# Altium integrated library ON Semi General Purpose Transistors.IntLib: 1679 symbols (part 27 of 36)
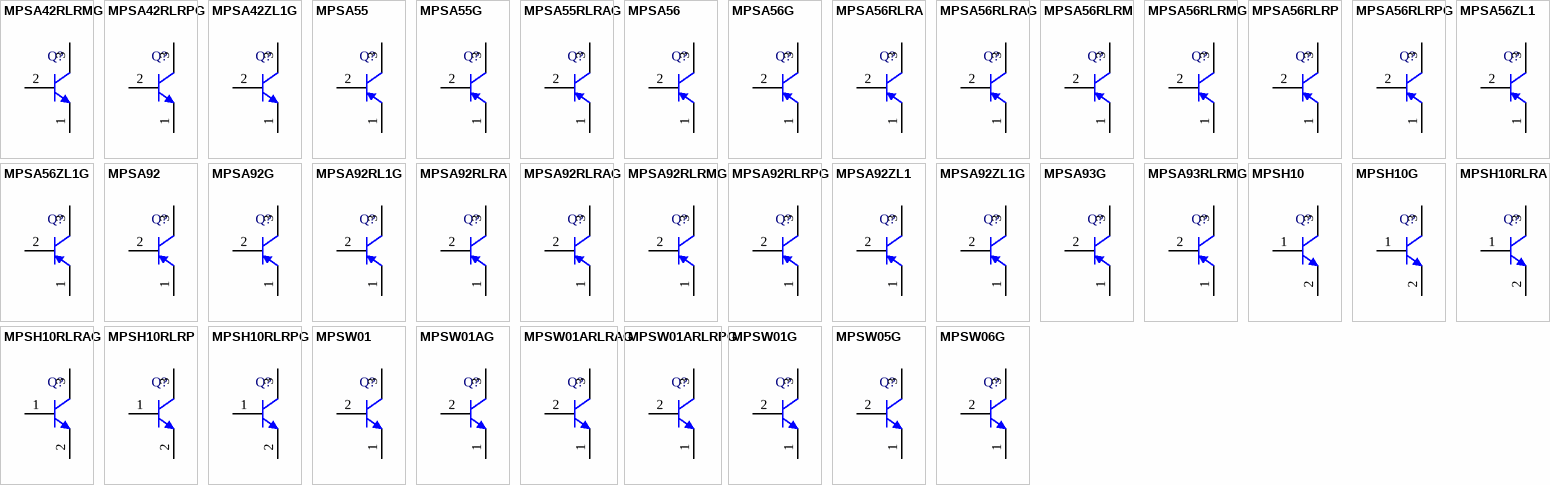
[diagram p71: symbols MPSA42RLRMG to MPSW06G]

## MPSW01
designator Q?
One Watt High Current Transistor, NPN Silicon, 3-Pin TO-92, Bulk Box; Manufacturer: On Semiconductor; PartNumber: MPSW01; Note: 0; fT Min (MHz): 50; IC Continuous (A): 1; DatasheetVersion: Rev. 6; PackageVersion: Rev. A, 05/2012; PackageReference: TO-92-3-29-10_SL; PackageDescription: 3-Pin Transistor Outline, Body 4.825 x 3.685 mm, Pitch 1.27 mm; Packing: Bulk Box; Polarity: NPN; RoHS: FALSE; Mounting Technology: Through Hole; ComponentLink1Description: Manufacturer URL; ComponentLink1URL: http://www.onsemi.com/; ComponentLink2Description: Datasheet; ComponentLink2URL: http://www.onsemi.com/pub_link/Collateral/MPSW01-D.PDF; ComponentLink3Description: Package Specification; ComponentLink3URL: http://www.onsemi.cn/pub_link/Collateral/29-10.PDF
footprint ONSC-TO-92-3-29-10_SL (TO, 3-Leads, Body Dia 4.7 mm, Pitch 1.27mm)
pins: 1 E, 2 B, 3 C

## MPSW01AG
designator Q?
One Watt High Current Transistor, NPN Silicon, 3-Pin TO-92, Pb-Free, Bulk Box; Manufacturer: On Semiconductor; PartNumber: MPSW01AG; fT Min (MHz): 50; IC Continuous (A): 1; DatasheetVersion: Rev. 6; PackageVersion: Rev. A, 05/2012; PackageReference: TO-92-3-29-10_SL; PackageDescription: 3-Pin Transistor Outline, Body 4.825 x 3.685 mm, Pitch 1.27 mm; Supplier 1: Digi-Key; Supplier Part Number 1: MPSW01AGOS-ND; Supplier 2: Farnell; Supplier Part Number 2: 1147713; Supplier 3: Newark; Supplier Part Number 3: 42K1471; Supplier 4: Mouser; Supplier Part Number 4: 863-MPSW01AG; Packing: Bulk Box; Polarity: NPN; RoHS: TRUE; Mounting Technology: Through Hole; ComponentLink1Description: Manufacturer URL; ComponentLink1URL: http://www.onsemi.com/; ComponentLink2Description: Datasheet; ComponentLink2URL: http://www.onsemi.com/pub_link/Collateral/MPSW01-D.PDF; ComponentLink3Description: Package Specification; ComponentLink3URL: http://www.onsemi.cn/pub_link/Collateral/29-10.PDF
footprint ONSC-TO-92-3-29-10_SL (TO, 3-Leads, Body Dia 4.7 mm, Pitch 1.27mm)
pins: 1 E, 2 B, 3 C

## MPSW01ARLRAG
designator Q?
One Watt High Current Transistor, NPN Silicon, 3-Pin TO-92, Pb-Free, Tape and Reel; Manufacturer: On Semiconductor; PartNumber: MPSW01ARLRAG; fT Min (MHz): 50; IC Continuous (A): 1; DatasheetVersion: Rev. 6; PackageVersion: Rev. A, 05/2012; PackageReference: TO-92-3-29-10_BL; PackageDescription: 3-Pin Transistor Outline, Body 4.825 x 3.685 mm, Pitch 1.27 mm; Supplier 1: Digi-Key; Supplier Part Number 1: MPSW01ARLRAG-ND; Supplier 2: Mouser; Supplier Part Number 2: 863-MPSW01ARLRAG; Packing: Tape and Reel; Polarity: NPN; RoHS: TRUE; Mounting Technology: Through Hole; ComponentLink1Description: Manufacturer URL; ComponentLink1URL: http://www.onsemi.com/; ComponentLink2Description: Datasheet; ComponentLink2URL: http://www.onsemi.com/pub_link/Collateral/MPSW01-D.PDF; ComponentLink3Description: Package Specification; ComponentLink3URL: http://www.onsemi.cn/pub_link/Collateral/29-10.PDF
footprint ONSC-TO-92-3-29-10_BL (TO, 3-Leads, Body Dia 4.7 mm, Pitch 2.6 mm)
pins: 1 E, 2 B, 3 C

## MPSW01ARLRPG
designator Q?
One Watt High Current Transistor, NPN Silicon, 3-Pin TO-92, Pb-Free, Ammo Box; Manufacturer: On Semiconductor; PartNumber: MPSW01ARLRPG; fT Min (MHz): 50; IC Continuous (A): 1; DatasheetVersion: Rev. 6; PackageVersion: Rev. A, 05/2012; PackageReference: TO-92-3-29-10_BL; PackageDescription: 3-Pin Transistor Outline, Body 4.825 x 3.685 mm, Pitch 1.27 mm; Supplier 1: Digi-Key; Supplier Part Number 1: MPSW01ARLRPGOSTB-ND; Supplier 2: Digi-Key; Supplier Part Number 2: MPSW01ARLRPGOSCT-ND; Supplier 3: Newark; Supplier Part Number 3: 26K4636; Supplier 4: Mouser; Supplier Part Number 4: 863-MPSW01ARLRPG; Packing: Ammo Box; Polarity: NPN; RoHS: TRUE; Mounting Technology: Through Hole; ComponentLink1Description: Manufacturer URL; ComponentLink1URL: http://www.onsemi.com/; ComponentLink2Description: Datasheet; ComponentLink2URL: http://www.onsemi.com/pub_link/Collateral/MPSW01-D.PDF; ComponentLink3Description: Package Specification; ComponentLink3URL: http://www.onsemi.cn/pub_link/Collateral/29-10.PDF
footprint ONSC-TO-92-3-29-10_BL (TO, 3-Leads, Body Dia 4.7 mm, Pitch 2.6 mm)
pins: 1 E, 2 B, 3 C

## MPSW01G
designator Q?
One Watt High Current Transistor, NPN Silicon, 3-Pin TO-92, Pb-Free, Bulk Box; Manufacturer: On Semiconductor; PartNumber: MPSW01G; fT Min (MHz): 50; IC Continuous (A): 1; DatasheetVersion: Rev. 6; PackageVersion: Rev. A, 05/2012; PackageReference: TO-92-3-29-10_SL; PackageDescription: 3-Pin Transistor Outline, Body 4.825 x 3.685 mm, Pitch 1.27 mm; Supplier 1: Digi-Key; Supplier Part Number 1: MPSW01GOS-ND; Supplier 2: Farnell; Supplier Part Number 2: 1364564; Supplier 3: Newark; Supplier Part Number 3: 42K1472; Supplier 4: Mouser; Supplier Part Number 4: 863-MPSW01G; Packing: Bulk Box; Polarity: NPN; RoHS: TRUE; Mounting Technology: Through Hole; ComponentLink1Description: Manufacturer URL; ComponentLink1URL: http://www.onsemi.com/; ComponentLink2Description: Datasheet; ComponentLink2URL: http://www.onsemi.com/pub_link/Collateral/MPSW01-D.PDF; ComponentLink3Description: Package Specification; ComponentLink3URL: http://www.onsemi.cn/pub_link/Collateral/29-10.PDF
footprint ONSC-TO-92-3-29-10_SL (TO, 3-Leads, Body Dia 4.7 mm, Pitch 1.27mm)
pins: 1 E, 2 B, 3 C

## MPSW05G
designator Q?
One Watt Amplifier Transistor, NPN Silicon, 3-Pin TO-92, Pb-Free, Bulk Box; Manufacturer: On Semiconductor; PartNumber: MPSW05G; fT Min (MHz): 50; IC Continuous (A): 0.5; DatasheetVersion: Rev. 4; PackageVersion: Rev. A, 05/2012; PackageReference: TO-92-3-29-10_SL; PackageDescription: 3-Pin Transistor Outline, Body 4.825 x 3.685 mm, Pitch 1.27 mm; Supplier 1: Digi-Key; Supplier Part Number 1: MPSW05GOS-ND; Supplier 2: Mouser; Supplier Part Number 2: 863-MPSW05G; Packing: Bulk Box; Polarity: NPN; RoHS: TRUE; Mounting Technology: Through Hole; ComponentLink1Description: Manufacturer URL; ComponentLink1URL: http://www.onsemi.com/; ComponentLink2Description: Datasheet; ComponentLink2URL: http://www.onsemi.com/pub_link/Collateral/MPSW05-D.PDF; ComponentLink3Description: Package Specification; ComponentLink3URL: http://www.onsemi.cn/pub_link/Collateral/29-10.PDF
footprint ONSC-TO-92-3-29-10_SL (TO, 3-Leads, Body Dia 4.7 mm, Pitch 1.27mm)
pins: 1 E, 2 B, 3 C

## MPSW06G
designator Q?
One Watt Amplifier Transistor, NPN Silicon, 3-Pin TO-92, Pb-Free, Bulk Box; Manufacturer: On Semiconductor; PartNumber: MPSW06G; fT Min (MHz): 50; IC Continuous (A): 0.5; DatasheetVersion: Rev. 4; PackageVersion: Rev. A, 05/2012; PackageReference: TO-92-3-29-10_SL; PackageDescription: 3-Pin Transistor Outline, Body 4.825 x 3.685 mm, Pitch 1.27 mm; Supplier 1: Digi-Key; Supplier Part Number 1: MPSW06GOS-ND; Supplier 2: Farnell; Supplier Part Number 2: 1149637; Supplier 3: Newark; Supplier Part Number 3: 26K4637; Supplier 4: Mouser; Supplier Part Number 4: 863-MPSW06G; Packing: Bulk Box; Polarity: NPN; RoHS: TRUE; Mounting Technology: Through Hole; ComponentLink1Description: Manufacturer URL; ComponentLink1URL: http://www.onsemi.com/; ComponentLink2Description: Datasheet; ComponentLink2URL: http://www.onsemi.com/pub_link/Collateral/MPSW05-D.PDF; ComponentLink3Description: Package Specification; ComponentLink3URL: http://www.onsemi.cn/pub_link/Collateral/29-10.PDF
footprint ONSC-TO-92-3-29-10_SL (TO, 3-Leads, Body Dia 4.7 mm, Pitch 1.27mm)
pins: 1 E, 2 B, 3 C

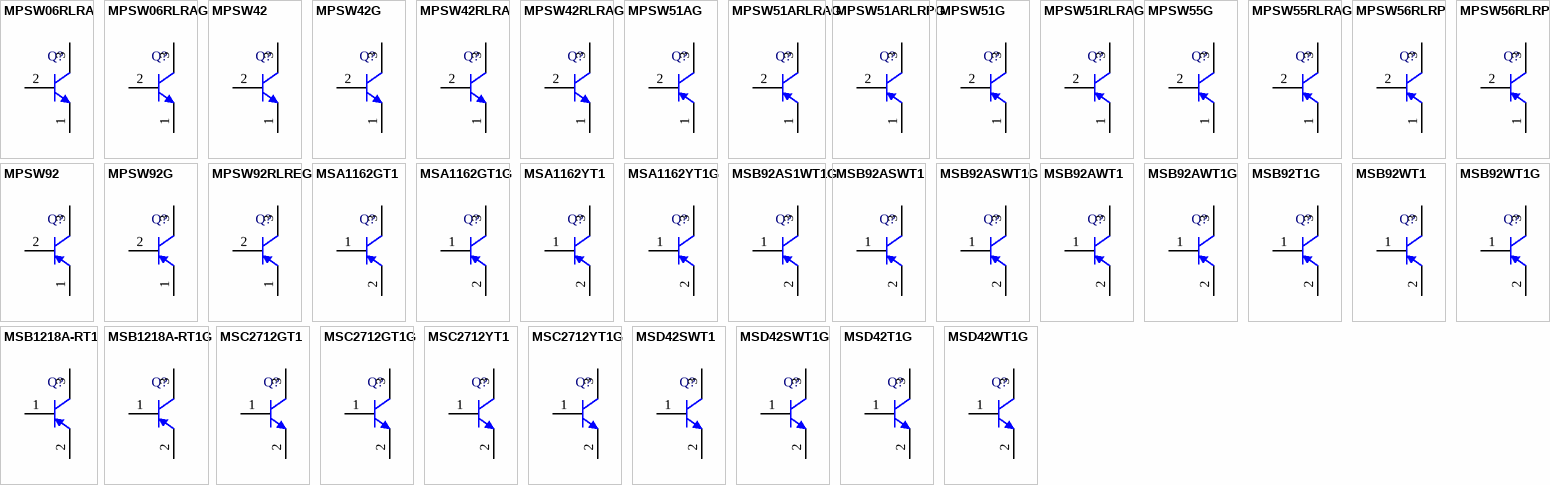
[diagram p33: symbols MPSW06RLRA to MSD42WT1G]

## MPSW06RLRA
designator Q?
One Watt Amplifier Transistor, NPN Silicon, 3-Pin TO-92, Tape and Reel; Manufacturer: On Semiconductor; PartNumber: MPSW06RLRA; fT Min (MHz): 50; IC Continuous (A): 0.5; DatasheetVersion: Rev. 4; PackageVersion: Rev. A, 05/2012; PackageReference: TO-92-3-29-10_BL; PackageDescription: 3-Pin Transistor Outline, Body 4.825 x 3.685 mm, Pitch 1.27 mm; Supplier 1: Digi-Key; Supplier Part Number 1: MPSW06RLRAOSCT-ND; Packing: Tape and Reel; Polarity: NPN; RoHS: FALSE; Mounting Technology: Through Hole; ComponentLink1Description: Manufacturer URL; ComponentLink1URL: http://www.onsemi.com/; ComponentLink2Description: Datasheet; ComponentLink2URL: http://www.onsemi.com/pub_link/Collateral/MPSW05-D.PDF; ComponentLink3Description: Package Specification; ComponentLink3URL: http://www.onsemi.cn/pub_link/Collateral/29-10.PDF
footprint ONSC-TO-92-3-29-10_BL (TO, 3-Leads, Body Dia 4.7 mm, Pitch 2.6 mm)
pins: 1 E, 2 B, 3 C

## MPSW06RLRAG
designator Q?
One Watt Amplifier Transistor, NPN Silicon, 3-Pin TO-92, Pb-Free, Tape and Reel; Manufacturer: On Semiconductor; PartNumber: MPSW06RLRAG; fT Min (MHz): 50; IC Continuous (A): 0.5; DatasheetVersion: Rev. 4; PackageVersion: Rev. A, 05/2012; PackageReference: TO-92-3-29-10_BL; PackageDescription: 3-Pin Transistor Outline, Body 4.825 x 3.685 mm, Pitch 1.27 mm; Supplier 1: Digi-Key; Supplier Part Number 1: MPSW06RLRAGOSTR-ND; Supplier 2: Digi-Key; Supplier Part Number 2: MPSW06RLRAGOSCT-ND; Supplier 3: Farnell; Supplier Part Number 3: 1861272; Supplier 4: Newark; Supplier Part Number 4: 77M8940; Supplier 5: Newark; Supplier Part Number 5: 71J6105; Supplier 6: Mouser; Supplier Part Number 6: 863-MPSW06RLRAG; Packing: Tape and Reel; Polarity: NPN; RoHS: TRUE; Mounting Technology: Through Hole; ComponentLink1Description: Manufacturer URL; ComponentLink1URL: http://www.onsemi.com/; ComponentLink2Description: Datasheet; ComponentLink2URL: http://www.onsemi.com/pub_link/Collateral/MPSW05-D.PDF; ComponentLink3Description: Package Specification; ComponentLink3URL: http://www.onsemi.cn/pub_link/Collateral/29-10.PDF
footprint ONSC-TO-92-3-29-10_BL (TO, 3-Leads, Body Dia 4.7 mm, Pitch 2.6 mm)
pins: 1 E, 2 B, 3 C

## MPSW42
designator Q?
One Watt High Voltage Transistor, NPN Silicon, 3-Pin TO-92, Bulk Box; Manufacturer: On Semiconductor; PartNumber: MPSW42; fT Min (MHz): 50; IC Continuous (A): 0.5; DatasheetVersion: Rev. 7; PackageVersion: Rev. A, 05/2012; PackageReference: TO-92-3-29-10_SL; PackageDescription: 3-Pin Transistor Outline, Body 4.825 x 3.685 mm, Pitch 1.27 mm; Supplier 1: Digi-Key; Supplier Part Number 1: MPSW42-ND; Packing: Bulk Box; Polarity: NPN; RoHS: FALSE; Mounting Technology: Through Hole; ComponentLink1Description: Manufacturer URL; ComponentLink1URL: http://www.onsemi.com/; ComponentLink2Description: Datasheet; ComponentLink2URL: http://www.onsemi.com/pub_link/Collateral/MPSW42-D.PDF; ComponentLink3Description: Package Specification; ComponentLink3URL: http://www.onsemi.cn/pub_link/Collateral/29-10.PDF
footprint ONSC-TO-92-3-29-10_SL (TO, 3-Leads, Body Dia 4.7 mm, Pitch 1.27mm)
pins: 1 E, 2 B, 3 C

## MPSW42G
designator Q?
One Watt High Voltage Transistor, NPN Silicon, 3-Pin TO-92, Pb-Free, Bulk Box; Manufacturer: On Semiconductor; PartNumber: MPSW42G; fT Min (MHz): 50; IC Continuous (A): 0.5; DatasheetVersion: Rev. 7; PackageVersion: Rev. A, 05/2012; PackageReference: TO-92-3-29-10_SL; PackageDescription: 3-Pin Transistor Outline, Body 4.825 x 3.685 mm, Pitch 1.27 mm; Supplier 1: Digi-Key; Supplier Part Number 1: MPSW42GOS-ND; Supplier 2: Farnell; Supplier Part Number 2: 1147714; Supplier 3: Newark; Supplier Part Number 3: 42K1475; Supplier 4: Mouser; Supplier Part Number 4: 863-MPSW42G; Packing: Bulk Box; Polarity: NPN; RoHS: TRUE; Mounting Technology: Through Hole; ComponentLink1Description: Manufacturer URL; ComponentLink1URL: http://www.onsemi.com/; ComponentLink2Description: Datasheet; ComponentLink2URL: http://www.onsemi.com/pub_link/Collateral/MPSW42-D.PDF; ComponentLink3Description: Package Specification; ComponentLink3URL: http://www.onsemi.cn/pub_link/Collateral/29-10.PDF
footprint ONSC-TO-92-3-29-10_SL (TO, 3-Leads, Body Dia 4.7 mm, Pitch 1.27mm)
pins: 1 E, 2 B, 3 C

## MPSW42RLRA
designator Q?
One Watt High Voltage Transistor, NPN Silicon, 3-Pin TO-92, Tape and Reel; Manufacturer: On Semiconductor; PartNumber: MPSW42RLRA; fT Min (MHz): 50; IC Continuous (A): 0.5; DatasheetVersion: Rev. 7; PackageVersion: Rev. A, 05/2012; PackageReference: TO-92-3-29-10_BL; PackageDescription: 3-Pin Transistor Outline, Body 4.825 x 3.685 mm, Pitch 1.27 mm; Supplier 1: Digi-Key; Supplier Part Number 1: MPSW42RLRAOSCT-ND; Packing: Tape and Reel; Polarity: NPN; RoHS: FALSE; Mounting Technology: Through Hole; ComponentLink1Description: Manufacturer URL; ComponentLink1URL: http://www.onsemi.com/; ComponentLink2Description: Datasheet; ComponentLink2URL: http://www.onsemi.com/pub_link/Collateral/MPSW42-D.PDF; ComponentLink3Description: Package Specification; ComponentLink3URL: http://www.onsemi.cn/pub_link/Collateral/29-10.PDF
footprint ONSC-TO-92-3-29-10_BL (TO, 3-Leads, Body Dia 4.7 mm, Pitch 2.6 mm)
pins: 1 E, 2 B, 3 C

## MPSW42RLRAG
designator Q?
One Watt High Voltage Transistor, NPN Silicon, 3-Pin TO-92, Pb-Free, Tape and Reel; Manufacturer: On Semiconductor; PartNumber: MPSW42RLRAG; fT Min (MHz): 50; IC Continuous (A): 0.5; DatasheetVersion: Rev. 7; PackageVersion: Rev. A, 05/2012; PackageReference: TO-92-3-29-10_BL; PackageDescription: 3-Pin Transistor Outline, Body 4.825 x 3.685 mm, Pitch 1.27 mm; Supplier 1: Digi-Key; Supplier Part Number 1: MPSW42RLRAGOSTR-ND; Supplier 2: Digi-Key; Supplier Part Number 2: MPSW42RLRAGOSCT-ND; Supplier 3: Farnell; Supplier Part Number 3: 2369437; Supplier 4: Farnell; Supplier Part Number 4: 1273214; Supplier 5: Newark; Supplier Part Number 5: 45J1662; Supplier 6: Newark; Supplier Part Number 6: 84K8811; Supplier 7: Mouser; Supplier Part Number 7: 863-MPSW42RLRAG; Packing: Tape and Reel; Polarity: NPN; RoHS: TRUE; Mounting Technology: Through Hole; ComponentLink1Description: Manufacturer URL; ComponentLink1URL: http://www.onsemi.com/; ComponentLink2Description: Datasheet; ComponentLink2URL: http://www.onsemi.com/pub_link/Collateral/MPSW42-D.PDF; ComponentLink3Description: Package Specification; ComponentLink3URL: http://www.onsemi.cn/pub_link/Collateral/29-10.PDF
footprint ONSC-TO-92-3-29-10_BL (TO, 3-Leads, Body Dia 4.7 mm, Pitch 2.6 mm)
pins: 1 E, 2 B, 3 C

## MPSW51AG
designator Q?
One Watt High Current Transistor, PNP Silicon, 3-Pin TO-92, Pb-Free, Bulk Box; Manufacturer: On Semiconductor; PartNumber: MPSW51AG; fT Min (MHz): 50; IC Continuous (A): -1; DatasheetVersion: Rev. 5; PackageVersion: Rev. A, 05/2012; PackageReference: TO-92-3-29-10_SL; PackageDescription: 3-Pin Transistor Outline, Body 4.825 x 3.685 mm, Pitch 1.27 mm; Supplier 1: Digi-Key; Supplier Part Number 1: MPSW51AGOS-ND; Supplier 2: Farnell; Supplier Part Number 2: 1126002; Supplier 3: Newark; Supplier Part Number 3: 26K4640; Supplier 4: Mouser; Supplier Part Number 4: 863-MPSW51AG; Packing: Bulk Box; Polarity: PNP; RoHS: TRUE; Mounting Technology: Through Hole; ComponentLink1Description: Manufacturer URL; ComponentLink1URL: http://www.onsemi.com/; ComponentLink2Description: Datasheet; ComponentLink2URL: http://www.onsemi.com/pub_link/Collateral/MPSW51-D.PDF; ComponentLink3Description: Package Specification; ComponentLink3URL: http://www.onsemi.cn/pub_link/Collateral/29-10.PDF
footprint ONSC-TO-92-3-29-10_SL (TO, 3-Leads, Body Dia 4.7 mm, Pitch 1.27mm)
pins: 1 E, 2 B, 3 C

## MPSW51ARLRAG
designator Q?
One Watt High Current Transistor, PNP Silicon, 3-Pin TO-92, Pb-Free, Tape and Reel; Manufacturer: On Semiconductor; PartNumber: MPSW51ARLRAG; fT Min (MHz): 50; IC Continuous (A): -1; DatasheetVersion: Rev. 5; PackageVersion: Rev. A, 05/2012; PackageReference: TO-92-3-29-10_BL; PackageDescription: 3-Pin Transistor Outline, Body 4.825 x 3.685 mm, Pitch 1.27 mm; Supplier 1: Digi-Key; Supplier Part Number 1: MPSW51ARLRAG-ND; Supplier 2: Newark; Supplier Part Number 2: 42K1479; Supplier 3: Mouser; Supplier Part Number 3: 863-MPSW51ARLRAG; Packing: Tape and Reel; Polarity: PNP; RoHS: TRUE; Mounting Technology: Through Hole; ComponentLink1Description: Manufacturer URL; ComponentLink1URL: http://www.onsemi.com/; ComponentLink2Description: Datasheet; ComponentLink2URL: http://www.onsemi.com/pub_link/Collateral/MPSW51-D.PDF; ComponentLink3Description: Package Specification; ComponentLink3URL: http://www.onsemi.cn/pub_link/Collateral/29-10.PDF
footprint ONSC-TO-92-3-29-10_BL (TO, 3-Leads, Body Dia 4.7 mm, Pitch 2.6 mm)
pins: 1 E, 2 B, 3 C

## MPSW51ARLRPG
designator Q?
One Watt High Current Transistor, PNP Silicon, 3-Pin TO-92, Pb-Free, Ammo Box; Manufacturer: On Semiconductor; PartNumber: MPSW51ARLRPG; fT Min (MHz): 50; IC Continuous (A): -1; DatasheetVersion: Rev. 5; PackageVersion: Rev. A, 05/2012; PackageReference: TO-92-3-29-10_BL; PackageDescription: 3-Pin Transistor Outline, Body 4.825 x 3.685 mm, Pitch 1.27 mm; Supplier 1: Digi-Key; Supplier Part Number 1: MPSW51ARLRPG-ND; Supplier 2: Newark; Supplier Part Number 2: 26K4641; Supplier 3: Mouser; Supplier Part Number 3: 863-MPSW51ARLRPG; Packing: Ammo Box; Polarity: PNP; RoHS: TRUE; Mounting Technology: Through Hole; ComponentLink1Description: Manufacturer URL; ComponentLink1URL: http://www.onsemi.com/; ComponentLink2Description: Datasheet; ComponentLink2URL: http://www.onsemi.com/pub_link/Collateral/MPSW51-D.PDF; ComponentLink3Description: Package Specification; ComponentLink3URL: http://www.onsemi.cn/pub_link/Collateral/29-10.PDF
footprint ONSC-TO-92-3-29-10_BL (TO, 3-Leads, Body Dia 4.7 mm, Pitch 2.6 mm)
pins: 1 E, 2 B, 3 C

## MPSW51G
designator Q?
One Watt High Current Transistor, PNP Silicon, 3-Pin TO-92, Pb-Free, Bulk Box; Manufacturer: On Semiconductor; PartNumber: MPSW51G; fT Min (MHz): 50; IC Continuous (A): -1; DatasheetVersion: Rev. 5; PackageVersion: Rev. A, 05/2012; PackageReference: TO-92-3-29-10_SL; PackageDescription: 3-Pin Transistor Outline, Body 4.825 x 3.685 mm, Pitch 1.27 mm; Supplier 1: Digi-Key; Supplier Part Number 1: MPSW51G-ND; Supplier 2: Newark; Supplier Part Number 2: 42K1480; Supplier 3: Mouser; Supplier Part Number 3: 863-MPSW51G; Packing: Bulk Box; Polarity: PNP; RoHS: TRUE; Mounting Technology: Through Hole; ComponentLink1Description: Manufacturer URL; ComponentLink1URL: http://www.onsemi.com/; ComponentLink2Description: Datasheet; ComponentLink2URL: http://www.onsemi.com/pub_link/Collateral/MPSW51-D.PDF; ComponentLink3Description: Package Specification; ComponentLink3URL: http://www.onsemi.cn/pub_link/Collateral/29-10.PDF
footprint ONSC-TO-92-3-29-10_SL (TO, 3-Leads, Body Dia 4.7 mm, Pitch 1.27mm)
pins: 1 E, 2 B, 3 C

## MPSW51RLRAG
designator Q?
One Watt High Current Transistor, PNP Silicon, 3-Pin TO-92, Pb-Free, Tape and Reel; Manufacturer: On Semiconductor; PartNumber: MPSW51RLRAG; Note: 0; fT Min (MHz): 50; IC Continuous (A): -1; DatasheetVersion: Rev. 5; PackageVersion: Rev. A, 05/2012; PackageReference: TO-92-3-29-10_BL; PackageDescription: 3-Pin Transistor Outline, Body 4.825 x 3.685 mm, Pitch 1.27 mm; Packing: Tape and Reel; Polarity: PNP; RoHS: TRUE; Mounting Technology: Through Hole; ComponentLink1Description: Manufacturer URL; ComponentLink1URL: http://www.onsemi.com/; ComponentLink2Description: Datasheet; ComponentLink2URL: http://www.onsemi.com/pub_link/Collateral/MPSW51-D.PDF; ComponentLink3Description: Package Specification; ComponentLink3URL: http://www.onsemi.cn/pub_link/Collateral/29-10.PDF
footprint ONSC-TO-92-3-29-10_BL (TO, 3-Leads, Body Dia 4.7 mm, Pitch 2.6 mm)
pins: 1 E, 2 B, 3 C

## MPSW55G
designator Q?
One Watt Amplifier Transistor, PNP Silicon, 3-Pin TO-92, Pb-Free, Bulk Box; Manufacturer: On Semiconductor; PartNumber: MPSW55G; fT Min (MHz): 50; IC Continuous (A): -0.5; DatasheetVersion: Rev. 4; PackageVersion: Rev. A, 05/2012; PackageReference: TO-92-3-29-10_SL; PackageDescription: 3-Pin Transistor Outline, Body 4.825 x 3.685 mm, Pitch 1.27 mm; Supplier 1: Digi-Key; Supplier Part Number 1: MPSW55G-ND; Supplier 2: Newark; Supplier Part Number 2: 42K1481; Supplier 3: Mouser; Supplier Part Number 3: 863-MPSW55G; Packing: Bulk Box; Polarity: PNP; RoHS: TRUE; Mounting Technology: Through Hole; ComponentLink1Description: Manufacturer URL; ComponentLink1URL: http://www.onsemi.com/; ComponentLink2Description: Datasheet; ComponentLink2URL: http://www.onsemi.com/pub_link/Collateral/MPSW55-D.PDF; ComponentLink3Description: Package Specification; ComponentLink3URL: http://www.onsemi.cn/pub_link/Collateral/29-10.PDF
footprint ONSC-TO-92-3-29-10_SL (TO, 3-Leads, Body Dia 4.7 mm, Pitch 1.27mm)
pins: 1 E, 2 B, 3 C

## MPSW55RLRAG
designator Q?
One Watt Amplifier Transistor, PNP Silicon, 3-Pin TO-92, Pb-Free, Tape and Reel; Manufacturer: On Semiconductor; PartNumber: MPSW55RLRAG; fT Min (MHz): 50; IC Continuous (A): -0.5; DatasheetVersion: Rev. 4; PackageVersion: Rev. A, 05/2012; PackageReference: TO-92-3-29-10_BL; PackageDescription: 3-Pin Transistor Outline, Body 4.825 x 3.685 mm, Pitch 1.27 mm; Supplier 1: Digi-Key; Supplier Part Number 1: MPSW55RLRAG-ND; Supplier 2: Mouser; Supplier Part Number 2: 863-MPSW55RLRAG; Packing: Tape and Reel; Polarity: PNP; RoHS: TRUE; Mounting Technology: Through Hole; ComponentLink1Description: Manufacturer URL; ComponentLink1URL: http://www.onsemi.com/; ComponentLink2Description: Datasheet; ComponentLink2URL: http://www.onsemi.com/pub_link/Collateral/MPSW55-D.PDF; ComponentLink3Description: Package Specification; ComponentLink3URL: http://www.onsemi.cn/pub_link/Collateral/29-10.PDF
footprint ONSC-TO-92-3-29-10_BL (TO, 3-Leads, Body Dia 4.7 mm, Pitch 2.6 mm)
pins: 1 E, 2 B, 3 C

## MPSW56RLRP
designator Q?
One Watt Amplifier Transistor, PNP Silicon, 3-Pin TO-92, Ammo Box; Manufacturer: On Semiconductor; PartNumber: MPSW56RLRP; fT Min (MHz): 50; IC Continuous (A): -0.5; DatasheetVersion: Rev. 4; PackageVersion: Rev. A, 05/2012; PackageReference: TO-92-3-29-10_BL; PackageDescription: 3-Pin Transistor Outline, Body 4.825 x 3.685 mm, Pitch 1.27 mm; Supplier 1: Mouser; Supplier Part Number 1: 863-MPSW56RLRP; Packing: Ammo Box; Polarity: PNP; RoHS: FALSE; Mounting Technology: Through Hole; ComponentLink1Description: Manufacturer URL; ComponentLink1URL: http://www.onsemi.com/; ComponentLink2Description: Datasheet; ComponentLink2URL: http://www.onsemi.com/pub_link/Collateral/MPSW55-D.PDF; ComponentLink3Description: Package Specification; ComponentLink3URL: http://www.onsemi.cn/pub_link/Collateral/29-10.PDF
footprint ONSC-TO-92-3-29-10_BL (TO, 3-Leads, Body Dia 4.7 mm, Pitch 2.6 mm)
pins: 1 E, 2 B, 3 C

## MPSW56RLRPG
designator Q?
One Watt Amplifier Transistor, PNP Silicon, 3-Pin TO-92, Pb-Free, Ammo Box; Manufacturer: On Semiconductor; PartNumber: MPSW56RLRPG; fT Min (MHz): 50; IC Continuous (A): -0.5; DatasheetVersion: Rev. 4; PackageVersion: Rev. A, 05/2012; PackageReference: TO-92-3-29-10_BL; PackageDescription: 3-Pin Transistor Outline, Body 4.825 x 3.685 mm, Pitch 1.27 mm; Supplier 1: Digi-Key; Supplier Part Number 1: MPSW56RLRPGOSTB-ND; Supplier 2: Digi-Key; Supplier Part Number 2: MPSW56RLRPGOSCT-ND; Supplier 3: Newark; Supplier Part Number 3: 26K4642; Supplier 4: Mouser; Supplier Part Number 4: 863-MPSW56RLRPG; Packing: Ammo Box; Polarity: PNP; RoHS: TRUE; Mounting Technology: Through Hole; ComponentLink1Description: Manufacturer URL; ComponentLink1URL: http://www.onsemi.com/; ComponentLink2Description: Datasheet; ComponentLink2URL: http://www.onsemi.com/pub_link/Collateral/MPSW55-D.PDF; ComponentLink3Description: Package Specification; ComponentLink3URL: http://www.onsemi.cn/pub_link/Collateral/29-10.PDF
footprint ONSC-TO-92-3-29-10_BL (TO, 3-Leads, Body Dia 4.7 mm, Pitch 2.6 mm)
pins: 1 E, 2 B, 3 C

## MPSW92
designator Q?
One Watt High Voltage Transistor, PNP Silicon, 3-Pin TO-92, Bulk Box; Manufacturer: On Semiconductor; PartNumber: MPSW92; fT Min (MHz): 50; IC Continuous (A): -0.5; DatasheetVersion: Rev. 5; PackageVersion: Rev. A, 05/2012; PackageReference: TO-92-3-29-10_SL; PackageDescription: 3-Pin Transistor Outline, Body 4.825 x 3.685 mm, Pitch 1.27 mm; Supplier 1: Digi-Key; Supplier Part Number 1: MPSW92OS-ND; Supplier 2: Mouser; Supplier Part Number 2: 863-MPSW92; Packing: Bulk Box; Polarity: PNP; RoHS: FALSE; Mounting Technology: Through Hole; ComponentLink1Description: Manufacturer URL; ComponentLink1URL: http://www.onsemi.com/; ComponentLink2Description: Datasheet; ComponentLink2URL: http://www.onsemi.com/pub_link/Collateral/MPSW92-D.PDF; ComponentLink3Description: Package Specification; ComponentLink3URL: http://www.onsemi.cn/pub_link/Collateral/29-10.PDF
footprint ONSC-TO-92-3-29-10_SL (TO, 3-Leads, Body Dia 4.7 mm, Pitch 1.27mm)
pins: 1 E, 2 B, 3 C

## MPSW92G
designator Q?
One Watt High Voltage Transistor, PNP Silicon, 3-Pin TO-92, Pb-Free, Bulk Box; Manufacturer: On Semiconductor; PartNumber: MPSW92G; fT Min (MHz): 50; IC Continuous (A): -0.5; DatasheetVersion: Rev. 5; PackageVersion: Rev. A, 05/2012; PackageReference: TO-92-3-29-10_SL; PackageDescription: 3-Pin Transistor Outline, Body 4.825 x 3.685 mm, Pitch 1.27 mm; Supplier 1: Digi-Key; Supplier Part Number 1: MPSW92GOS-ND; Supplier 2: Mouser; Supplier Part Number 2: 863-MPSW92G; Packing: Bulk Box; Polarity: PNP; RoHS: TRUE; Mounting Technology: Through Hole; ComponentLink1Description: Manufacturer URL; ComponentLink1URL: http://www.onsemi.com/; ComponentLink2Description: Datasheet; ComponentLink2URL: http://www.onsemi.com/pub_link/Collateral/MPSW92-D.PDF; ComponentLink3Description: Package Specification; ComponentLink3URL: http://www.onsemi.cn/pub_link/Collateral/29-10.PDF
footprint ONSC-TO-92-3-29-10_SL (TO, 3-Leads, Body Dia 4.7 mm, Pitch 1.27mm)
pins: 1 E, 2 B, 3 C

## MPSW92RLREG
designator Q?
One Watt High Voltage Transistor, PNP Silicon, 3-Pin TO-92, Pb-Free, Tape and Reel; Manufacturer: On Semiconductor; PartNumber: MPSW92RLREG; Note: 0; fT Min (MHz): 50; IC Continuous (A): -0.5; DatasheetVersion: Rev. 5; PackageVersion: Rev. A, 05/2012; PackageReference: TO-92-3-29-10_BL; PackageDescription: 3-Pin Transistor Outline, Body 4.825 x 3.685 mm, Pitch 1.27 mm; Packing: Tape and Reel; Polarity: PNP; RoHS: TRUE; Mounting Technology: Through Hole; ComponentLink1Description: Manufacturer URL; ComponentLink1URL: http://www.onsemi.com/; ComponentLink2Description: Datasheet; ComponentLink2URL: http://www.onsemi.com/pub_link/Collateral/MPSW92-D.PDF; ComponentLink3Description: Package Specification; ComponentLink3URL: http://www.onsemi.cn/pub_link/Collateral/29-10.PDF
footprint ONSC-TO-92-3-29-10_BL (TO, 3-Leads, Body Dia 4.7 mm, Pitch 2.6 mm)
pins: 1 E, 2 B, 3 C

## MSA1162GT1
designator Q?
General Purpose Amplifier Transistor, PNP Surface Mount, 3-Pin SC-59, Tape and Reel; Manufacturer: On Semiconductor; PartNumber: MSA1162GT1; Note: 0; fT Min (MHz): 80; IC Continuous (A): 0.1; DatasheetVersion: Rev. 7; PackageVersion: Rev. H, 06/2012; PackageReference: SC-59-3-318D-04; PackageDescription: 3-Pin Small Outline Transistor, Body 2.9 x 1.5 mm, Pitch 0.95 mm; Packing: Tape and Reel; Polarity: PNP; RoHS: FALSE; Mounting Technology: Surface Mount; ComponentLink1Description: Manufacturer URL; ComponentLink1URL: http://www.onsemi.com/; ComponentLink2Description: Datasheet; ComponentLink2URL: http://www.onsemi.com/pub_link/Collateral/MSA1162GT1-D.PDF; ComponentLink3Description: Package Specification; ComponentLink3URL: http://www.onsemi.cn/pub_link/Collateral/318D-04.PDF
footprint ONSC-SC-59-3-318D-04_V (SOT23, 3-Leads, Body 2.9x1.5mm, Pitch 0.95mm)
pins: 1 B, 2 E, 3 C

## MSA1162GT1G
designator Q?
General Purpose Amplifier Transistor, PNP Surface Mount, 3-Pin SC-59, Pb-Free, Tape and Reel; Manufacturer: On Semiconductor; PartNumber: MSA1162GT1G; fT Min (MHz): 80; IC Continuous (A): 0.1; DatasheetVersion: Rev. 7; PackageVersion: Rev. H, 06/2012; PackageReference: SC-59-3-318D-04; PackageDescription: 3-Pin Small Outline Transistor, Body 2.9 x 1.5 mm, Pitch 0.95 mm; Supplier 1: Digi-Key; Supplier Part Number 1: MSA1162GT1GOSTR-ND; Supplier 2: Digi-Key; Supplier Part Number 2: MSA1162GT1GOSCT-ND; Supplier 3: Digi-Key; Supplier Part Number 3: MSA1162GT1GOSDKR-ND; Supplier 4: Mouser; Supplier Part Number 4: 863-MSA1162GT1G; Packing: Tape and Reel; Polarity: PNP; RoHS: TRUE; Mounting Technology: Surface Mount; ComponentLink1Description: Manufacturer URL; ComponentLink1URL: http://www.onsemi.com/; ComponentLink2Description: Datasheet; ComponentLink2URL: http://www.onsemi.com/pub_link/Collateral/MSA1162GT1-D.PDF; ComponentLink3Description: Package Specification; ComponentLink3URL: http://www.onsemi.cn/pub_link/Collateral/318D-04.PDF
footprint ONSC-SC-59-3-318D-04_V (SOT23, 3-Leads, Body 2.9x1.5mm, Pitch 0.95mm)
pins: 1 B, 2 E, 3 C

## MSA1162YT1
designator Q?
General Purpose Amplifier Transistor, PNP Surface Mount, 3-Pin SC-59, Tape and Reel; Manufacturer: On Semiconductor; PartNumber: MSA1162YT1; fT Min (MHz): 80; IC Continuous (A): 0.1; DatasheetVersion: Rev. 7; PackageVersion: Rev. H, 06/2012; PackageReference: SC-59-3-318D-04; PackageDescription: 3-Pin Small Outline Transistor, Body 2.9 x 1.5 mm, Pitch 0.95 mm; Supplier 1: Digi-Key; Supplier Part Number 1: MSA1162YT1-ND; Supplier 2: Mouser; Supplier Part Number 2: 863-MSA1162YT1; Packing: Tape and Reel; Polarity: PNP; RoHS: FALSE; Mounting Technology: Surface Mount; ComponentLink1Description: Manufacturer URL; ComponentLink1URL: http://www.onsemi.com/; ComponentLink2Description: Datasheet; ComponentLink2URL: http://www.onsemi.com/pub_link/Collateral/MSA1162GT1-D.PDF; ComponentLink3Description: Package Specification; ComponentLink3URL: http://www.onsemi.cn/pub_link/Collateral/318D-04.PDF
footprint ONSC-SC-59-3-318D-04_V (SOT23, 3-Leads, Body 2.9x1.5mm, Pitch 0.95mm)
pins: 1 B, 2 E, 3 C

## MSA1162YT1G
designator Q?
General Purpose Amplifier Transistor, PNP Surface Mount, 3-Pin SC-59, Pb-Free, Tape and Reel; Manufacturer: On Semiconductor; PartNumber: MSA1162YT1G; fT Min (MHz): 80; IC Continuous (A): 0.1; DatasheetVersion: Rev. 7; PackageVersion: Rev. H, 06/2012; PackageReference: SC-59-3-318D-04; PackageDescription: 3-Pin Small Outline Transistor, Body 2.9 x 1.5 mm, Pitch 0.95 mm; Supplier 1: Digi-Key; Supplier Part Number 1: MSA1162YT1G-ND; Supplier 2: Mouser; Supplier Part Number 2: 863-MSA1162YT1G; Packing: Tape and Reel; Polarity: PNP; RoHS: TRUE; Mounting Technology: Surface Mount; ComponentLink1Description: Manufacturer URL; ComponentLink1URL: http://www.onsemi.com/; ComponentLink2Description: Datasheet; ComponentLink2URL: http://www.onsemi.com/pub_link/Collateral/MSA1162GT1-D.PDF; ComponentLink3Description: Package Specification; ComponentLink3URL: http://www.onsemi.cn/pub_link/Collateral/318D-04.PDF
footprint ONSC-SC-59-3-318D-04_V (SOT23, 3-Leads, Body 2.9x1.5mm, Pitch 0.95mm)
pins: 1 B, 2 E, 3 C

## MSB92AS1WT1G
designator Q?
PNP Silicon General Purpose High Voltage Transistor, 3-Pin SC70, Pb-Free, Tape and Reel; Manufacturer: On Semiconductor; PartNumber: MSB92AS1WT1G; fT Min (MHz): 50; IC Continuous (A): 0.5; DatasheetVersion: Rev. 5; PackageVersion: Rev. N, 11/2008; PackageReference: SC-70-3-419-04; PackageDescription: 3-Pin Small Outline Transistor, Body 2 x 1.25 mm, Pitch 0.65 mm; Supplier 1: Digi-Key; Supplier Part Number 1: MSB92AS1WT1G-ND; Supplier 2: Mouser; Supplier Part Number 2: 863-MSB92AS1WT1G; Packing: Tape and Reel; Polarity: PNP; RoHS: TRUE; Mounting Technology: Surface Mount; ComponentLink1Description: Manufacturer URL; ComponentLink1URL: http://www.onsemi.com/; ComponentLink2Description: Datasheet; ComponentLink2URL: http://www.onsemi.com/pub_link/Collateral/MSB92ASWT1-D.PDF; ComponentLink3Description: Package Specification; ComponentLink3URL: http://www.onsemi.cn/pub_link/Collateral/419-04.PDF
footprint ONSC-SC-70-3-419-04_V (SOT23, 3-Leads, Body 2x1.25mm, Pitch 0.65mm)
pins: 1 B, 2 E, 3 C

## MSB92ASWT1
designator Q?
PNP Silicon General Purpose High Voltage Transistor, 3-Pin SC70, Tape and Reel; Manufacturer: On Semiconductor; PartNumber: MSB92ASWT1; fT Min (MHz): 50; IC Continuous (A): 0.5; DatasheetVersion: Rev. 5; PackageVersion: Rev. N, 11/2008; PackageReference: SC-70-3-419-04; PackageDescription: 3-Pin Small Outline Transistor, Body 2 x 1.25 mm, Pitch 0.65 mm; Supplier 1: Digi-Key; Supplier Part Number 1: MSB92ASWT1OS-ND; Packing: Tape and Reel; Polarity: PNP; RoHS: FALSE; Mounting Technology: Surface Mount; ComponentLink1Description: Manufacturer URL; ComponentLink1URL: http://www.onsemi.com/; ComponentLink2Description: Datasheet; ComponentLink2URL: http://www.onsemi.com/pub_link/Collateral/MSB92ASWT1-D.PDF; ComponentLink3Description: Package Specification; ComponentLink3URL: http://www.onsemi.cn/pub_link/Collateral/419-04.PDF
footprint ONSC-SC-70-3-419-04_V (SOT23, 3-Leads, Body 2x1.25mm, Pitch 0.65mm)
pins: 1 B, 2 E, 3 C

## MSB92ASWT1G
designator Q?
PNP Silicon General Purpose High Voltage Transistor, 3-Pin SC70, Pb-Free, Tape and Reel; Manufacturer: On Semiconductor; PartNumber: MSB92ASWT1G; fT Min (MHz): 50; IC Continuous (A): 0.5; DatasheetVersion: Rev. 5; PackageVersion: Rev. N, 11/2008; PackageReference: SC-70-3-419-04; PackageDescription: 3-Pin Small Outline Transistor, Body 2 x 1.25 mm, Pitch 0.65 mm; Supplier 1: Digi-Key; Supplier Part Number 1: MSB92ASWT1GOSTR-ND; Supplier 2: Digi-Key; Supplier Part Number 2: MSB92ASWT1GOSCT-ND; Supplier 3: Digi-Key; Supplier Part Number 3: MSB92ASWT1GOSDKR-ND; Supplier 4: Mouser; Supplier Part Number 4: 863-MSB92ASWT1G; Packing: Tape and Reel; Polarity: PNP; RoHS: TRUE; Mounting Technology: Surface Mount; ComponentLink1Description: Manufacturer URL; ComponentLink1URL: http://www.onsemi.com/; ComponentLink2Description: Datasheet; ComponentLink2URL: http://www.onsemi.com/pub_link/Collateral/MSB92ASWT1-D.PDF; ComponentLink3Description: Package Specification; ComponentLink3URL: http://www.onsemi.cn/pub_link/Collateral/419-04.PDF
footprint ONSC-SC-70-3-419-04_V (SOT23, 3-Leads, Body 2x1.25mm, Pitch 0.65mm)
pins: 1 B, 2 E, 3 C

## MSB92AWT1
designator Q?
PNP Silicon General Purpose High Voltage Transistor, 3-Pin SC70, Tape and Reel; Manufacturer: On Semiconductor; PartNumber: MSB92AWT1; Note: 0; fT Min (MHz): 50; IC Continuous (A): -0.5; DatasheetVersion: Rev. 7; PackageVersion: Rev. N, 11/2008; PackageReference: SC-70-3-419-04; PackageDescription: 3-Pin Small Outline Transistor, Body 2 x 1.25 mm, Pitch 0.65 mm; Packing: Tape and Reel; Polarity: PNP; RoHS: FALSE; Mounting Technology: Surface Mount; ComponentLink1Description: Manufacturer URL; ComponentLink1URL: http://www.onsemi.com/; ComponentLink2Description: Datasheet; ComponentLink2URL: http://www.onsemi.com/pub_link/Collateral/MSB92WT1-D.PDF; ComponentLink3Description: Package Specification; ComponentLink3URL: http://www.onsemi.cn/pub_link/Collateral/419-04.PDF
footprint ONSC-SC-70-3-419-04_V (SOT23, 3-Leads, Body 2x1.25mm, Pitch 0.65mm)
pins: 1 B, 2 E, 3 C

## MSB92AWT1G
designator Q?
PNP Silicon General Purpose High Voltage Transistor, 3-Pin SC70, Pb-Free, Tape and Reel; Manufacturer: On Semiconductor; PartNumber: MSB92AWT1G; fT Min (MHz): 50; IC Continuous (A): -0.5; DatasheetVersion: Rev. 7; PackageVersion: Rev. N, 11/2008; PackageReference: SC-70-3-419-04; PackageDescription: 3-Pin Small Outline Transistor, Body 2 x 1.25 mm, Pitch 0.65 mm; Supplier 1: Digi-Key; Supplier Part Number 1: MSB92AWT1G-ND; Supplier 2: Mouser; Supplier Part Number 2: 863-MSB92AWT1G; Packing: Tape and Reel; Polarity: PNP; RoHS: TRUE; Mounting Technology: Surface Mount; ComponentLink1Description: Manufacturer URL; ComponentLink1URL: http://www.onsemi.com/; ComponentLink2Description: Datasheet; ComponentLink2URL: http://www.onsemi.com/pub_link/Collateral/MSB92WT1-D.PDF; ComponentLink3Description: Package Specification; ComponentLink3URL: http://www.onsemi.cn/pub_link/Collateral/419-04.PDF
footprint ONSC-SC-70-3-419-04_V (SOT23, 3-Leads, Body 2x1.25mm, Pitch 0.65mm)
pins: 1 B, 2 E, 3 C

## MSB92T1G
designator Q?
PNP Silicon General Purpose High Voltage Transistor, 3-Pin SC-59, Pb-Free, Tape and Reel; Manufacturer: On Semiconductor; PartNumber: MSB92T1G; fT Min (MHz): 50; IC Continuous (A): 0.15; DatasheetVersion: Rev. 1; PackageVersion: Rev. H, 06/2012; PackageReference: SC-59-3-318D-04; PackageDescription: 3-Pin Small Outline Transistor, Body 2.9 x 1.5 mm, Pitch 0.95 mm; Supplier 1: Digi-Key; Supplier Part Number 1: MSB92T1G-ND; Supplier 2: Mouser; Supplier Part Number 2: 863-MSB92T1G; Packing: Tape and Reel; Polarity: PNP; RoHS: TRUE; Mounting Technology: Surface Mount; ComponentLink1Description: Manufacturer URL; ComponentLink1URL: http://www.onsemi.com/; ComponentLink2Description: Datasheet; ComponentLink2URL: http://www.onsemi.com/pub_link/Collateral/MSB92T1G-D.PDF; ComponentLink3Description: Package Specification; ComponentLink3URL: http://www.onsemi.cn/pub_link/Collateral/318D-04.PDF
footprint ONSC-SC-59-3-318D-04_V (SOT23, 3-Leads, Body 2.9x1.5mm, Pitch 0.95mm)
pins: 1 B, 2 E, 3 C

## MSB92WT1
designator Q?
PNP Silicon General Purpose High Voltage Transistor, 3-Pin SC70, Tape and Reel; Manufacturer: On Semiconductor; PartNumber: MSB92WT1; fT Min (MHz): 50; IC Continuous (A): -0.5; DatasheetVersion: Rev. 7; PackageVersion: Rev. N, 11/2008; PackageReference: SC-70-3-419-04; PackageDescription: 3-Pin Small Outline Transistor, Body 2 x 1.25 mm, Pitch 0.65 mm; Supplier 1: Digi-Key; Supplier Part Number 1: MSB92WT1OS-ND; Packing: Tape and Reel; Polarity: PNP; RoHS: FALSE; Mounting Technology: Surface Mount; ComponentLink1Description: Manufacturer URL; ComponentLink1URL: http://www.onsemi.com/; ComponentLink2Description: Datasheet; ComponentLink2URL: http://www.onsemi.com/pub_link/Collateral/MSB92WT1-D.PDF; ComponentLink3Description: Package Specification; ComponentLink3URL: http://www.onsemi.cn/pub_link/Collateral/419-04.PDF
footprint ONSC-SC-70-3-419-04_V (SOT23, 3-Leads, Body 2x1.25mm, Pitch 0.65mm)
pins: 1 B, 2 E, 3 C

## MSB92WT1G
designator Q?
PNP Silicon General Purpose High Voltage Transistor, 3-Pin SC70, Pb-Free, Tape and Reel; Manufacturer: On Semiconductor; PartNumber: MSB92WT1G; fT Min (MHz): 50; IC Continuous (A): -0.5; DatasheetVersion: Rev. 7; PackageVersion: Rev. N, 11/2008; PackageReference: SC-70-3-419-04; PackageDescription: 3-Pin Small Outline Transistor, Body 2 x 1.25 mm, Pitch 0.65 mm; Supplier 1: Digi-Key; Supplier Part Number 1: MSB92WT1GOSTR-ND; Supplier 2: Digi-Key; Supplier Part Number 2: MSB92WT1GOSCT-ND; Supplier 3: Mouser; Supplier Part Number 3: 863-MSB92WT1G; Packing: Tape and Reel; Polarity: PNP; RoHS: TRUE; Mounting Technology: Surface Mount; ComponentLink1Description: Manufacturer URL; ComponentLink1URL: http://www.onsemi.com/; ComponentLink2Description: Datasheet; ComponentLink2URL: http://www.onsemi.com/pub_link/Collateral/MSB92WT1-D.PDF; ComponentLink3Description: Package Specification; ComponentLink3URL: http://www.onsemi.cn/pub_link/Collateral/419-04.PDF
footprint ONSC-SC-70-3-419-04_V (SOT23, 3-Leads, Body 2x1.25mm, Pitch 0.65mm)
pins: 1 B, 2 E, 3 C

## MSB1218A-RT1
designator Q?
PNP Silicon General Purpose Amplifier Transistor, 3-Pin SC70, Tape and Reel; Manufacturer: On Semiconductor; PartNumber: MSB1218A-RT1; IC Continuous (A): 0.1; DatasheetVersion: Rev. 7; PackageVersion: Rev. N, 11/2008; PackageReference: SC-70-3-419-04; PackageDescription: 3-Pin Small Outline Transistor, Body 2 x 1.25 mm, Pitch 0.65 mm; Supplier 1: Digi-Key; Supplier Part Number 1: MSB1218A-RT1-ND; Packing: Tape and Reel; Polarity: PNP; RoHS: FALSE; Mounting Technology: Surface Mount; ComponentLink1Description: Manufacturer URL; ComponentLink1URL: http://www.onsemi.com/; ComponentLink2Description: Datasheet; ComponentLink2URL: http://www.onsemi.com/pub_link/Collateral/MSB1218A-RT1-D.PDF; ComponentLink3Description: Package Specification; ComponentLink3URL: http://www.onsemi.cn/pub_link/Collateral/419-04.PDF
footprint ONSC-SC-70-3-419-04_V (SOT23, 3-Leads, Body 2x1.25mm, Pitch 0.65mm)
pins: 1 B, 2 E, 3 C

## MSB1218A-RT1G
designator Q?
PNP Silicon General Purpose Amplifier Transistor, 3-Pin SC70, Pb-Free, Tape and Reel; Manufacturer: On Semiconductor; PartNumber: MSB1218A-RT1G; IC Continuous (A): 0.1; DatasheetVersion: Rev. 7; PackageVersion: Rev. N, 11/2008; PackageReference: SC-70-3-419-04; PackageDescription: 3-Pin Small Outline Transistor, Body 2 x 1.25 mm, Pitch 0.65 mm; Supplier 1: Digi-Key; Supplier Part Number 1: MSB1218A-RT1G-ND; Supplier 2: Mouser; Supplier Part Number 2: 863-MSB1218A-RT1G; Packing: Tape and Reel; Polarity: PNP; RoHS: TRUE; Mounting Technology: Surface Mount; ComponentLink1Description: Manufacturer URL; ComponentLink1URL: http://www.onsemi.com/; ComponentLink2Description: Datasheet; ComponentLink2URL: http://www.onsemi.com/pub_link/Collateral/MSB1218A-RT1-D.PDF; ComponentLink3Description: Package Specification; ComponentLink3URL: http://www.onsemi.cn/pub_link/Collateral/419-04.PDF
footprint ONSC-SC-70-3-419-04_V (SOT23, 3-Leads, Body 2x1.25mm, Pitch 0.65mm)
pins: 1 B, 2 E, 3 C

## MSC2712GT1
designator Q?
General Purpose Amplifier Transistor, NPN Surface Mount, 3-Pin SC-59, Tape and Reel; Manufacturer: On Semiconductor; PartNumber: MSC2712GT1; Note: 0; fT Min (MHz): 50; IC Continuous (A): 0.1; DatasheetVersion: Rev. 6; PackageVersion: Rev. H, 06/2012; PackageReference: SC-59-3-318D-04; PackageDescription: 3-Pin Small Outline Transistor, Body 2.9 x 1.5 mm, Pitch 0.95 mm; Packing: Tape and Reel; Polarity: NPN; RoHS: FALSE; Mounting Technology: Surface Mount; ComponentLink1Description: Manufacturer URL; ComponentLink1URL: http://www.onsemi.com/; ComponentLink2Description: Datasheet; ComponentLink2URL: http://www.onsemi.com/pub_link/Collateral/MSC2712GT1-D.PDF; ComponentLink3Description: Package Specification; ComponentLink3URL: http://www.onsemi.cn/pub_link/Collateral/318D-04.PDF
footprint ONSC-SC-59-3-318D-04_V (SOT23, 3-Leads, Body 2.9x1.5mm, Pitch 0.95mm)
pins: 1 B, 2 E, 3 C

## MSC2712GT1G
designator Q?
General Purpose Amplifier Transistor, NPN Surface Mount, 3-Pin SC-59, Pb-Free, Tape and Reel; Manufacturer: On Semiconductor; PartNumber: MSC2712GT1G; fT Min (MHz): 50; IC Continuous (A): 0.1; DatasheetVersion: Rev. 6; PackageVersion: Rev. H, 06/2012; PackageReference: SC-59-3-318D-04; PackageDescription: 3-Pin Small Outline Transistor, Body 2.9 x 1.5 mm, Pitch 0.95 mm; Supplier 1: Digi-Key; Supplier Part Number 1: MSC2712GT1GOSTR-ND; Supplier 2: Digi-Key; Supplier Part Number 2: MSC2712GT1GOSCT-ND; Supplier 3: Digi-Key; Supplier Part Number 3: MSC2712GT1GOSDKR-ND; Supplier 4: Newark; Supplier Part Number 4: 45J1702; Supplier 5: Mouser; Supplier Part Number 5: 863-MSC2712GT1G; Packing: Tape and Reel; Polarity: NPN; RoHS: TRUE; Mounting Technology: Surface Mount; ComponentLink1Description: Manufacturer URL; ComponentLink1URL: http://www.onsemi.com/; ComponentLink2Description: Datasheet; ComponentLink2URL: http://www.onsemi.com/pub_link/Collateral/MSC2712GT1-D.PDF; ComponentLink3Description: Package Specification; ComponentLink3URL: http://www.onsemi.cn/pub_link/Collateral/318D-04.PDF
footprint ONSC-SC-59-3-318D-04_V (SOT23, 3-Leads, Body 2.9x1.5mm, Pitch 0.95mm)
pins: 1 B, 2 E, 3 C

## MSC2712YT1
designator Q?
General Purpose Amplifier Transistor, NPN Surface Mount, 3-Pin SC-59, Tape and Reel; Manufacturer: On Semiconductor; PartNumber: MSC2712YT1; fT Min (MHz): 50; IC Continuous (A): 0.1; DatasheetVersion: Rev. 6; PackageVersion: Rev. H, 06/2012; PackageReference: SC-59-3-318D-04; PackageDescription: 3-Pin Small Outline Transistor, Body 2.9 x 1.5 mm, Pitch 0.95 mm; Supplier 1: Mouser; Supplier Part Number 1: 863-MSC2712YT1; Packing: Tape and Reel; Polarity: NPN; RoHS: FALSE; Mounting Technology: Surface Mount; ComponentLink1Description: Manufacturer URL; ComponentLink1URL: http://www.onsemi.com/; ComponentLink2Description: Datasheet; ComponentLink2URL: http://www.onsemi.com/pub_link/Collateral/MSC2712GT1-D.PDF; ComponentLink3Description: Package Specification; ComponentLink3URL: http://www.onsemi.cn/pub_link/Collateral/318D-04.PDF
footprint ONSC-SC-59-3-318D-04_V (SOT23, 3-Leads, Body 2.9x1.5mm, Pitch 0.95mm)
pins: 1 B, 2 E, 3 C

## MSC2712YT1G
designator Q?
General Purpose Amplifier Transistor, NPN Surface Mount, 3-Pin SC-59, Pb-Free, Tape and Reel; Manufacturer: On Semiconductor; PartNumber: MSC2712YT1G; fT Min (MHz): 50; IC Continuous (A): 0.1; DatasheetVersion: Rev. 6; PackageVersion: Rev. H, 06/2012; PackageReference: SC-59-3-318D-04; PackageDescription: 3-Pin Small Outline Transistor, Body 2.9 x 1.5 mm, Pitch 0.95 mm; Supplier 1: Digi-Key; Supplier Part Number 1: MSC2712YT1G-ND; Supplier 2: Mouser; Supplier Part Number 2: 863-MSC2712YT1G; Packing: Tape and Reel; Polarity: NPN; RoHS: TRUE; Mounting Technology: Surface Mount; ComponentLink1Description: Manufacturer URL; ComponentLink1URL: http://www.onsemi.com/; ComponentLink2Description: Datasheet; ComponentLink2URL: http://www.onsemi.com/pub_link/Collateral/MSC2712GT1-D.PDF; ComponentLink3Description: Package Specification; ComponentLink3URL: http://www.onsemi.cn/pub_link/Collateral/318D-04.PDF
footprint ONSC-SC-59-3-318D-04_V (SOT23, 3-Leads, Body 2.9x1.5mm, Pitch 0.95mm)
pins: 1 B, 2 E, 3 C

## MSD42SWT1
designator Q?
NPN Silicon General Purpose High Voltage Transistor, 3-Pin SC70, Tape and Reel; Manufacturer: On Semiconductor; PartNumber: MSD42SWT1; IC Continuous (A): 0.15; DatasheetVersion: Rev. 2; PackageVersion: Rev. N, 11/2008; PackageReference: SC-70-3-419-04; PackageDescription: 3-Pin Small Outline Transistor, Body 2 x 1.25 mm, Pitch 0.65 mm; Supplier 1: Digi-Key; Supplier Part Number 1: MSD42SWT1OS-ND; Packing: Tape and Reel; Polarity: NPN; RoHS: FALSE; Mounting Technology: Surface Mount; ComponentLink1Description: Manufacturer URL; ComponentLink1URL: http://www.onsemi.com/; ComponentLink2Description: Datasheet; ComponentLink2URL: http://www.onsemi.com/pub_link/Collateral/MSD42SWT1-D.PDF; ComponentLink3Description: Package Specification; ComponentLink3URL: http://www.onsemi.cn/pub_link/Collateral/419-04.PDF
footprint ONSC-SC-70-3-419-04_V (SOT23, 3-Leads, Body 2x1.25mm, Pitch 0.65mm)
pins: 1 B, 2 E, 3 C

## MSD42SWT1G
designator Q?
NPN Silicon General Purpose High Voltage Transistor, 3-Pin SC70, Pb-Free, Tape and Reel; Manufacturer: On Semiconductor; PartNumber: MSD42SWT1G; IC Continuous (A): 0.15; DatasheetVersion: Rev. 2; PackageVersion: Rev. N, 11/2008; PackageReference: SC-70-3-419-04; PackageDescription: 3-Pin Small Outline Transistor, Body 2 x 1.25 mm, Pitch 0.65 mm; Supplier 1: Digi-Key; Supplier Part Number 1: MSD42SWT1GOSTR-ND; Supplier 2: Digi-Key; Supplier Part Number 2: MSD42SWT1GOSCT-ND; Supplier 3: Digi-Key; Supplier Part Number 3: MSD42SWT1GOSDKR-ND; Supplier 4: Mouser; Supplier Part Number 4: 863-MSD42SWT1G; Packing: Tape and Reel; Polarity: NPN; RoHS: TRUE; Mounting Technology: Surface Mount; ComponentLink1Description: Manufacturer URL; ComponentLink1URL: http://www.onsemi.com/; ComponentLink2Description: Datasheet; ComponentLink2URL: http://www.onsemi.com/pub_link/Collateral/MSD42SWT1-D.PDF; ComponentLink3Description: Package Specification; ComponentLink3URL: http://www.onsemi.cn/pub_link/Collateral/419-04.PDF
footprint ONSC-SC-70-3-419-04_V (SOT23, 3-Leads, Body 2x1.25mm, Pitch 0.65mm)
pins: 1 B, 2 E, 3 C

## MSD42T1G
designator Q?
NPN Silicon General Purpose High Voltage Transistor, 3-Pin SC-59, Pb-Free, Tape and Reel; Manufacturer: On Semiconductor; PartNumber: MSD42T1G; fT Min (MHz): 50; IC Continuous (A): 0.15; DatasheetVersion: Rev. 0; PackageVersion: Rev. H, 06/2012; PackageReference: SC-59-3-318D-04; PackageDescription: 3-Pin Small Outline Transistor, Body 2.9 x 1.5 mm, Pitch 0.95 mm; Supplier 1: Digi-Key; Supplier Part Number 1: MSD42T1G-ND; Supplier 2: Mouser; Supplier Part Number 2: 863-MSD42T1G; Packing: Tape and Reel; Polarity: NPN; RoHS: TRUE; Mounting Technology: Surface Mount; ComponentLink1Description: Manufacturer URL; ComponentLink1URL: http://www.onsemi.com/; ComponentLink2Description: Datasheet; ComponentLink2URL: http://www.onsemi.com/pub_link/Collateral/MSD42T1-D.PDF; ComponentLink3Description: Package Specification; ComponentLink3URL: http://www.onsemi.cn/pub_link/Collateral/318D-04.PDF
footprint ONSC-SC-59-3-318D-04_V (SOT23, 3-Leads, Body 2.9x1.5mm, Pitch 0.95mm)
pins: 1 B, 2 E, 3 C

## MSD42WT1G
designator Q?
NPN High Voltage Transistor, 3-Pin SC70, Pb-Free, Tape and Reel; Manufacturer: On Semiconductor; PartNumber: MSD42WT1G; IC Continuous (A): 0.15; DatasheetVersion: Rev. 11; PackageVersion: Rev. N, 11/2008; PackageReference: SC-70-3-419-04; PackageDescription: 3-Pin Small Outline Transistor, Body 2 x 1.25 mm, Pitch 0.65 mm; Supplier 1: Digi-Key; Supplier Part Number 1: MSD42WT1GOSTR-ND; Supplier 2: Digi-Key; Supplier Part Number 2: MSD42WT1GOSCT-ND; Supplier 3: Digi-Key; Supplier Part Number 3: MSD42WT1GOSDKR-ND; Supplier 4: Newark; Supplier Part Number 4: 98H0845; Supplier 5: Mouser; Supplier Part Number 5: 863-MSD42WT1G; Packing: Tape and Reel; Polarity: NPN; RoHS: TRUE; Mounting Technology: Surface Mount; ComponentLink1Description: Manufacturer URL; ComponentLink1URL: http://www.onsemi.com/; ComponentLink2Description: Datasheet; ComponentLink2URL: http://www.onsemi.com/pub_link/Collateral/MSD42WT1-D.PDF; ComponentLink3Description: Package Specification; ComponentLink3URL: http://www.onsemi.cn/pub_link/Collateral/419-04.PDF
footprint ONSC-SC-70-3-419-04_V (SOT23, 3-Leads, Body 2x1.25mm, Pitch 0.65mm)
pins: 1 B, 2 E, 3 C

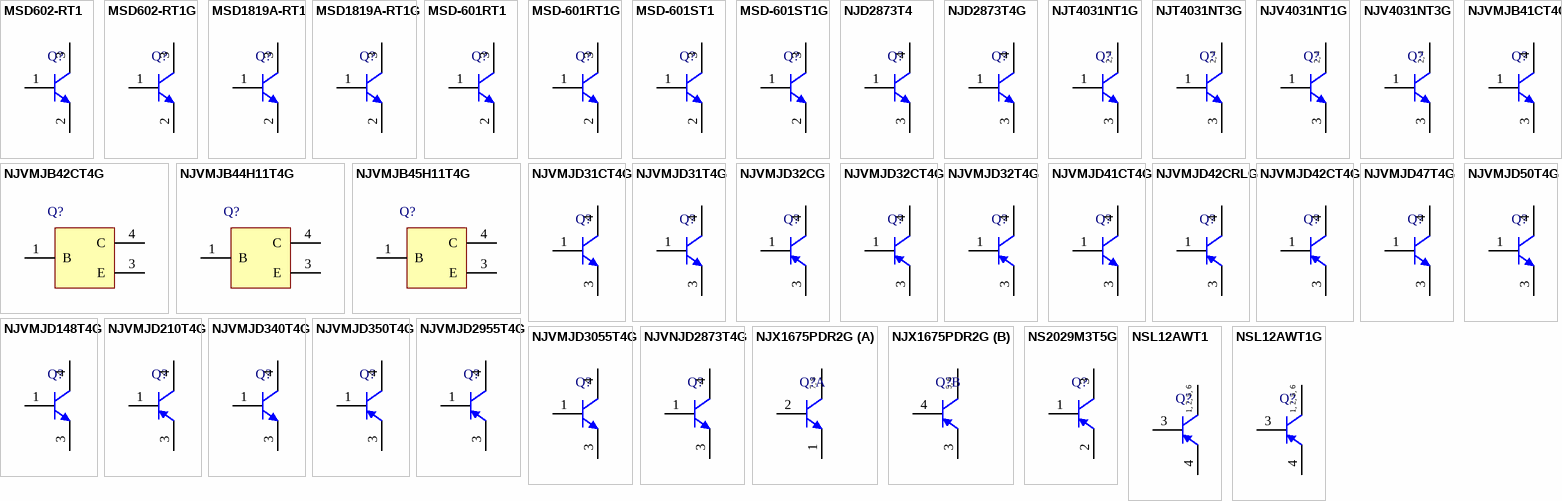
[diagram p34: symbols MSD602-RT1 to NSL12AWT1G]

## MSD602-RT1
designator Q?
NPN General Purpose Amplifier Transistor Surface Mount, 3-Pin SC-59, Tape and Reel; Manufacturer: On Semiconductor; PartNumber: MSD602-RT1; Note: 0; IC Continuous (A): 0.5; DatasheetVersion: Rev. 8; PackageVersion: Rev. H, 06/2012; PackageReference: SC-59-3-318D-04; PackageDescription: 3-Pin Small Outline Transistor, Body 2.9 x 1.5 mm, Pitch 0.95 mm; Packing: Tape and Reel; Polarity: NPN; RoHS: FALSE; Mounting Technology: Surface Mount; ComponentLink1Description: Manufacturer URL; ComponentLink1URL: http://www.onsemi.com/; ComponentLink2Description: Datasheet; ComponentLink2URL: http://www.onsemi.com/pub_link/Collateral/MSD602-RT1-D.PDF; ComponentLink3Description: Package Specification; ComponentLink3URL: http://www.onsemi.cn/pub_link/Collateral/318D-04.PDF
footprint ONSC-SC-59-3-318D-04_V (SOT23, 3-Leads, Body 2.9x1.5mm, Pitch 0.95mm)
pins: 1 B, 2 E, 3 C